# Altium footprint library CONN-PLS-2-2.54mm.PcbLib: 1 footprints
Each footprint in its own frame and in the unit in brackets; x right, y up, seen from the top. Pads: shape width x height; smd on the part's side, far side on the other; paste and mask are expansions set on the pad; w line width, h text height; cw(c..) or ccw(c..) is an arc to the next point about the centre after c.
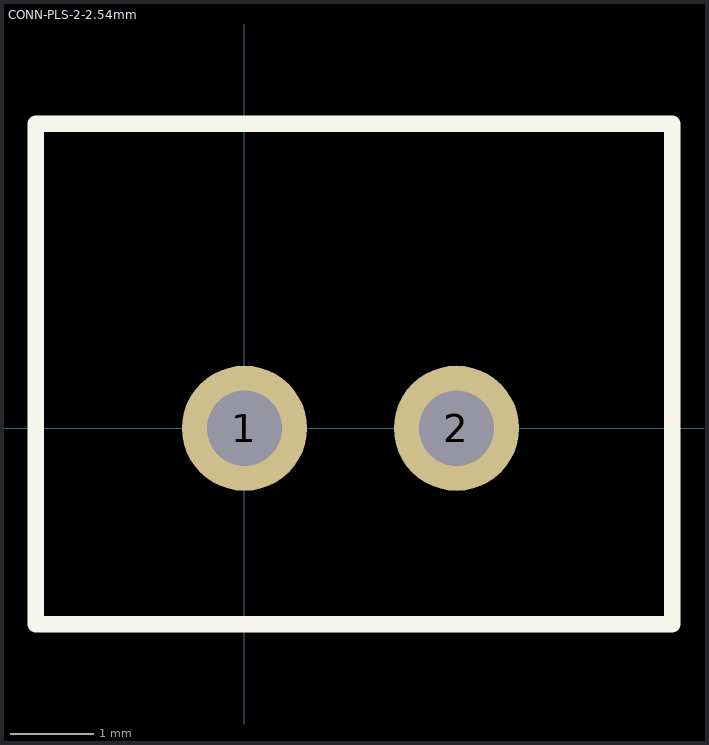
[diagram p0: the footprint, top view; thin cyan lines are the x and y axes]

## CONN-PLS-2-2.54mm [mm]
pads (2):
  round 1.5 hole 0.9: 1(0,0) 2(2.54,0)
Top Overlay:
  lines w0.2: -2.5,-2.35 5.125,-2.35 5.125,3.65 -2.5,3.65 -2.5,-2.35
3D body "User Library-XH2_54_ZC_2P.STEP": height 7, standoff -4, extent -2.4,-2.25 5,3.55